# Altium footprint library SamacSys.PcbLib: 2 footprints
Each footprint in its own frame and in the unit in brackets; x right, y up, seen from the top. Pads: shape width x height; smd on the part's side, far side on the other; paste and mask are expansions set on the pad; w line width, h text height; cw(c..) or ccw(c..) is an arc to the next point about the centre after c.
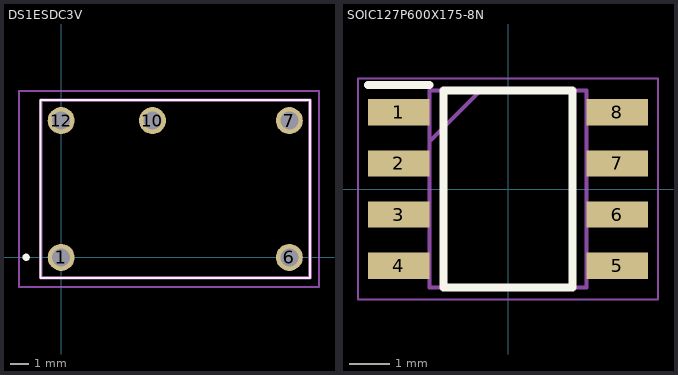
[diagram p0: the footprints below, top view; thin cyan lines are the x and y axes]

## DS1ESDC3V [mm]
pads (5):
  round 1.5 hole 1: 1(0,0) 6(12.7,0) 7(12.7,7.62) 10(5.08,7.62) 12(0,7.62)
Top Overlay:
  lines w0.1: -1.15,-1.14 13.85,-1.14 13.85,8.76 -1.15,8.76 -1.15,-1.14
  lines w0.2: -1.95,-0.09 cw(c-1.95,0.01) -1.95,0.11 cw(c-1.95,0.01) -1.95,-0.09
Mechanical 13:
  lines w0.2: -1.15,-1.14 13.85,-1.14 13.85,8.76 -1.15,8.76 -1.15,-1.14
Mechanical 15:
  lines w0.1: -2.35,-1.64 14.35,-1.64 14.35,9.26 -2.35,9.26 -2.35,-1.64
3D body "DS1E-S-DC3V.stp": height 9.9, standoff -5, extent -1.15,-1.14 13.85,8.76

## SOIC127P600X175-8N [mm]
pads (8):
  rect 1.525x0.65 smd: 1(-2.712,1.905) 2(-2.712,0.635) 3(-2.712,-0.635) 4(-2.712,-1.905) 5(2.712,-1.905) 6(2.712,-0.635) 7(2.712,0.635) 8(2.712,1.905)
Top Overlay:
  lines w0.2: -3.475,2.58 -1.95,2.58 ; -1.6,-2.45 -1.6,2.45 1.6,2.45 1.6,-2.45 -1.6,-2.45
Mechanical 13:
  lines w0.1: -1.95,1.18 -0.68,2.45 ; -1.95,-2.45 -1.95,2.45 1.95,2.45 1.95,-2.45 -1.95,-2.45
Mechanical 15:
  lines w0.05: -3.725,-2.75 -3.725,2.75 3.725,2.75 3.725,-2.75 -3.725,-2.75
3D body "NE555DR.stp": height 1.75, standoff 0, extent -3,-2.45 3,2.45